# EAGLE library part ESP32_NODEMCU_DEVKIT (library esp32_nodemcu_devkit)
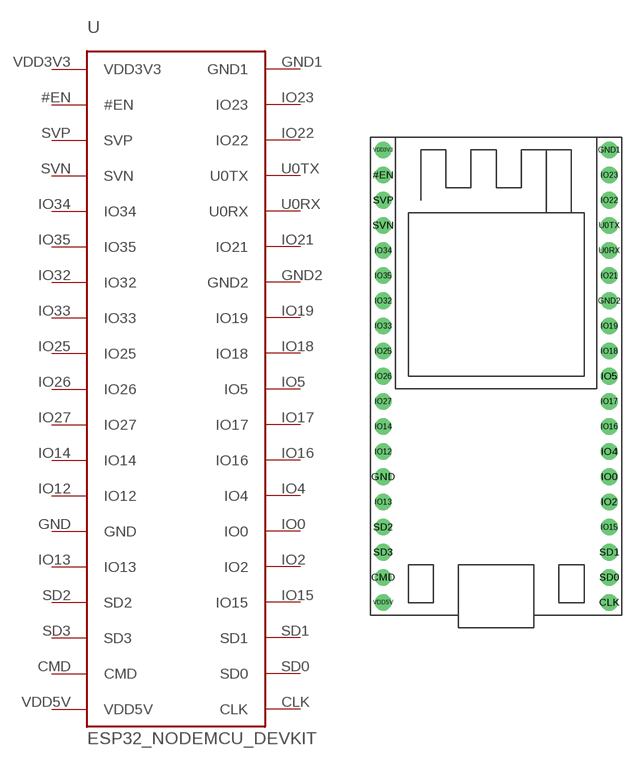
[diagram p0: symbol with the pads of ESP32_NODEMCU_PACKAGE; footprint ESP32_NODEMCU_PACKAGE]

Designator prefix -

## ESP32_NODEMCU_DEVKIT  [ESP32_NODEMCU_PACKAGE]
#EN  #EN
CLK  CLK
CMD  CMD
GND  GND
GND1  GND1
GND2  GND2
IO0  IO0
IO2  IO2
IO4  IO4
IO5  IO5
IO12  IO12
IO13  IO13
IO14  IO14
IO15  IO15
IO16  IO16
IO17  IO17
IO18  IO18
IO19  IO19
IO21  IO21
IO22  IO22
IO23  IO23
IO25  IO25
IO26  IO26
IO27  IO27
IO32  IO32
IO33  IO33
IO34  IO34
IO35  IO35
SD0  SD0
SD1  SD1
SD2  SD2
SD3  SD3
SVN  SVN
SVP  SVP
U0RX  U0RX
U0TX  U0TX
VDD3V3  VDD3V3
VDD5V  VDD5V

## Footprint ESP32_NODEMCU_PACKAGE (pad centres in mm)
drill 0.9 pad 1.676: #EN -6.35,20.32; CLK 16.51,-22.86; CMD -6.35,-20.32; GND -6.35,-10.16; GND1 16.51,22.86; GND2 16.51,7.62; IO0 16.51,-10.16; IO2 16.51,-12.7; IO4 16.51,-7.62; IO5 16.51,0; IO12 -6.35,-7.62; IO13 -6.35,-12.7; IO14 -6.35,-5.08; IO15 16.51,-15.24; IO16 16.51,-5.08; IO17 16.51,-2.54; IO18 16.51,2.54; IO19 16.51,5.08; IO21 16.51,10.16; IO22 16.51,17.78; IO23 16.51,20.32; IO25 -6.35,2.54; IO26 -6.35,0; IO27 -6.35,-2.54; IO32 -6.35,7.62; IO33 -6.35,5.08; IO34 -6.35,12.7; IO35 -6.35,10.16; SD0 16.51,-20.32; SD1 16.51,-17.78; SD2 -6.35,-15.24; SD3 -6.35,-17.78; SVN -6.35,15.24; SVP -6.35,17.78; U0RX 16.51,12.7; U0TX 16.51,15.24; VDD3V3 -6.35,22.86; VDD5V -6.35,-22.86